# EAGLE library part TI_SCHMITTRIGGER_SN74 (library DubSat1 Components)
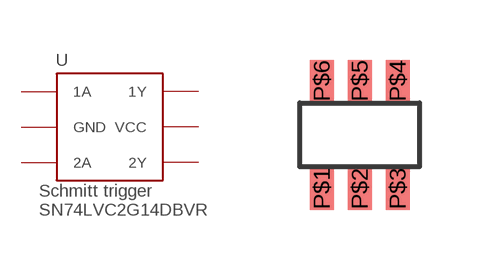
[diagram p13: symbol with the pads of SOT-23-6; footprint SOT-23-6]

Designator prefix U

## TI_SCHMITTRIGGER_SN74  [SOT-23-6]
P$1  1A
P$2  GND
P$3  2A
P$4  2Y
P$5  VCC
P$6  1Y

## Footprint SOT-23-6 (pad centres in mm)
smd 0.6 x 1.05: P$1 -0.95,-1.35; P$2 0,-1.35; P$3 0.95,-1.35; P$4 0.95,1.35; P$5 0,1.35; P$6 -0.95,1.35